# Altium schematic symbol library SCH - POWER - MODULE - WURTH - DCDC-171010601.SCHLIB: 1 symbol
Pins are listed as number, name and electrical type; pins without a type are passive.

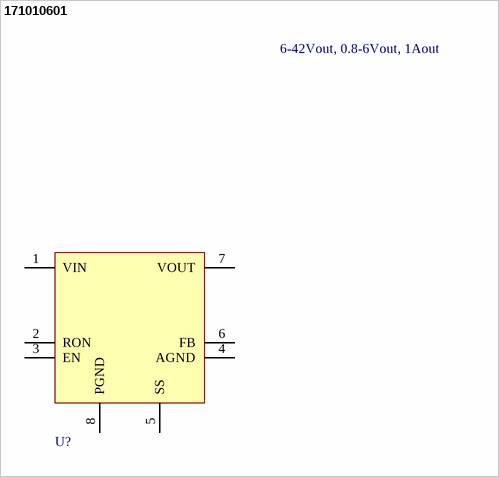
[diagram p0: symbol 171010601]

## 171010601
designator U?, comment 6-42Vout, 0.8-6Vout, 1Aout
WPME-VDRM Variable Step Down Regulator Module, SMT, TO263-7EP, 6-42Vout, 0.8-6Vout, 1Aout
pins: 1 VIN, 2 RON, 3 EN, 4 AGND, 5 SS, 6 FB, 7 VOUT, 8 PGND